# EAGLE library part BQ24253 (library SobieskiSat2)
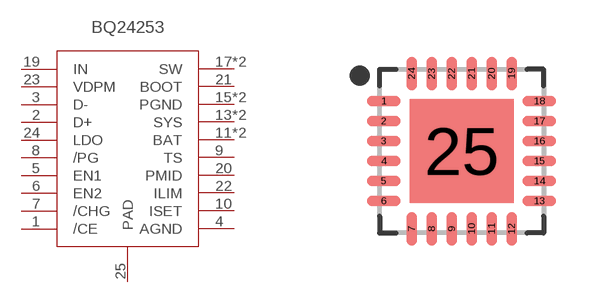
[diagram p12: symbol with the pads of QFN50P400X400X100-25T270N; footprint QFN50P400X400X100-25T270N]

Designator prefix -

## BQ24253  [QFN50P400X400X100-25T270N]
1  /CE
2  D+
3  D-
4  AGND
5  EN1
6  EN2
7  /CHG
8  /PG
9  TS
10  ISET
11  BAT
12  BAT
13  SYS
14  SYS
15  PGND
16  PGND
17  SW
18  SW
19  IN
20  PMID
21  BOOT
22  ILIM
23  VDPM
24  LDO
25  PAD

## Footprint QFN50P400X400X100-25T270N (pad centres in mm)
24-QFN, 0.50 mm pitch, 4.00 X 4.00 X 1.00 mm body, 2.70 X 2.70 mm thermal pad 24-pin QFN package with 0.50 mm pitch with body size 4.00 X 4.00 X 1.00 mm and thermal pad size 2.70 X 2.70 mm
smd 0.84 x 0.264: 1 -1.945,1.25; 2 -1.945,0.75; 3 -1.945,0.25; 4 -1.945,-0.25; 5 -1.945,-0.75; 6 -1.945,-1.25; 13 1.945,-1.25; 14 1.945,-0.75; 15 1.945,-0.25; 16 1.945,0.25; 17 1.945,0.75; 18 1.945,1.25
smd 0.264 x 0.84: 7 -1.25,-1.945; 8 -0.75,-1.945; 9 -0.25,-1.945; 10 0.25,-1.945; 11 0.75,-1.945; 12 1.25,-1.945; 19 1.25,1.945; 20 0.75,1.945; 21 0.25,1.945; 22 -0.25,1.945; 23 -0.75,1.945; 24 -1.25,1.945
smd 2.6 x 2.6: 25 0,0